# EAGLE library part RJ45-5555167-1 (library dpx-con-CUSTOM)
Modular Connectors / Ethernet Connectors Source: Datasheet <https://datasheet.datasheetarchive.com/originals/distributors/Datasheets_SAMA/574988524c770baed4bdf880eead7a73.pdf>
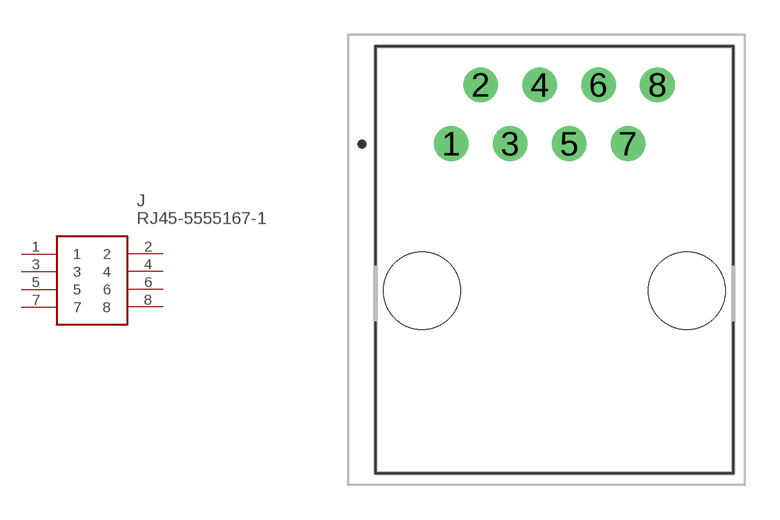
[diagram p9: symbol with the pads of RJ45-TE-55551671; footprint RJ45-TE-55551671]

Designator prefix J

## RJ45-5555167-1 (DESCRIPTION: Modular Connectors / Ethernet Connectors; HEIGHT: 12.7mm; MANUFACTURER_NAME: TE Connectivity; MANUFACTURER_PART_NUMBER: 5555167-1; MOUSER_PART_NUMBER: 571-5555167-1; MOUSER_PRICE-STOCK: https://www.mouser.com/Search/Refine.aspx?Keyword=571-5555167-1)  [RJ45-TE-55551671]
1  1
2  2
3  3
4  4
5  5
6  6
7  7
8  8

## Footprint RJ45-TE-55551671 (pad centres in mm)
5555167-1-1
drill 0.96 pad 1.493: 1 0,0; 2 1.27,2.54; 3 2.54,0; 4 3.81,2.54; 5 5.08,0; 6 6.35,2.54; 7 7.62,0; 8 8.89,2.54
hole 3.32 at -1.27,-6.35
hole 3.32 at 10.16,-6.35